# Altium footprint library BGA15C50P5X3_245X191X69.PcbLib: 1 footprints
Each footprint in its own frame and in the unit in brackets; x right, y up, seen from the top. Pads: shape width x height; smd on the part's side, far side on the other; paste and mask are expansions set on the pad; w line width, h text height; cw(c..) or ccw(c..) is an arc to the next point about the centre after c.
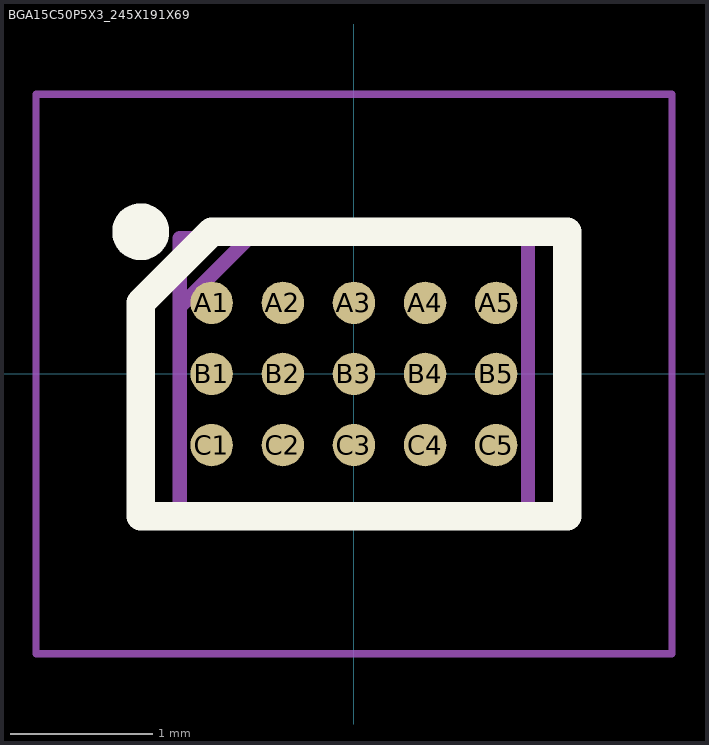
[diagram p0: the footprint, top view; thin cyan lines are the x and y axes]

## BGA15C50P5X3_245X191X69 [mm]
pads (15):
  round 0.298 smd: A1(-1,0.5) A2(-0.5,0.5) A3(0,0.5) A4(0.5,0.5) A5(1,0.5) B1(-1,0) B2(-0.5,0) B3(0,0) B4(0.5,0) B5(1,0) C1(-1,-0.5) C2(-0.5,-0.5) C3(0,-0.5) C4(0.5,-0.5) C5(1,-0.5)
Top Overlay:
  circle w0.2: c-1.499,0.999 r0.1
  lines w0.2: -1.499,-0.999 1.499,-0.999 1.499,0.999 -1,0.999 -1.499,0.5 -1.499,-0.999
Mechanical 15:
  lines w0.1: -1.224,0.471 -0.741,0.954 ; -1.224,-0.954 1.224,-0.954 1.224,0.954 -1.224,0.954 -1.224,-0.954
Mechanical 20:
  lines w0.05: -2.236,-1.967 2.237,-1.967 2.237,1.966 -2.236,1.966 -2.236,-1.967
3D body "MAX17330X22+.stp": height 5.8, standoff -4.65, extent -10,-3.376 10,3.376